# Altium schematic symbol library 1206 100R.Schlib: 1 symbol
Pins are listed as number, name and electrical type; pins without a type are passive.

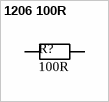
[diagram p0: symbol 1206 100R]

## 1206 100R
designator R?, comment value 100R  (hidden comment: Resistor)
100Ω ±1% 0.25W ±200ppm/℃ 1206 Chip Resistor - Surface Mount RoHS; LCSC Part #: C17901
footprint RES 1206_3216 (Chip Resistor, 2-Leads, Body 3.13x1.55mm, IPC Medium Density)
pins: 1, 2